# EAGLE library part AUX-USB (library connectors)
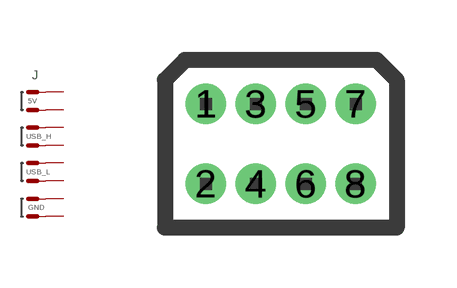
[diagram p0: symbol with the pads of JED-8PS; footprint JED-8PS]

Designator prefix J

## AUX-USB  [JED-8PS]
1  5V1  pas
2  5V2  pas
3  USB_H1  pas
4  USB_H2  pas
5  USB_L1  pas
6  USB_L2  pas
7  GND1  pas
8  GND2  pas

## Footprint JED-8PS (pad centres in mm)
drill 0.508 pad 1.016 round: 1 -1.875,1; 2 -1.875,-1; 3 -0.625,1; 4 -0.625,-1; 5 0.625,1; 6 0.625,-1; 7 1.875,1; 8 1.875,-1